# Altium footprint library IND_VISHAY.PcbLib: 2 footprints
Each footprint in its own frame and in the unit in brackets; x right, y up, seen from the top. Pads: shape width x height; smd on the part's side, far side on the other; paste and mask are expansions set on the pad; w line width, h text height; cw(c..) or ccw(c..) is an arc to the next point about the centre after c.
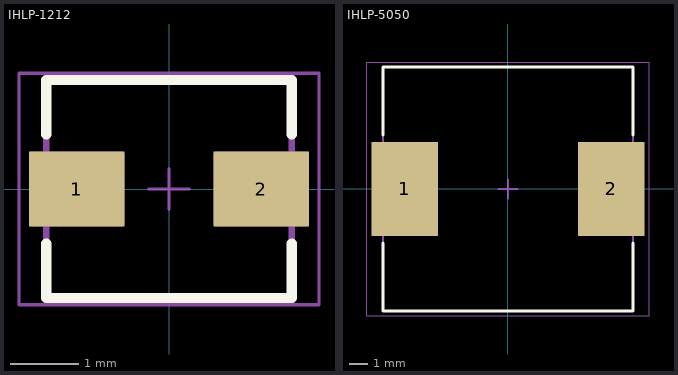
[diagram p0: the footprints below, top view; thin cyan lines are the x and y axes]

## IHLP-1212 [mm] "Low Profile High Current IHLP® Inductors"
pads (2):
  rect 1.4x1.1 smd: 1(-1.35,0) 2(1.35,0)
Top Overlay:
  lines w0.15: -1.8,-0.8 -1.8,-1.6 1.8,-1.6 1.8,-0.8 ; -1.8,0.8 -1.8,1.6 1.8,1.6 1.8,0.8
Mechanical 14:
  lines w0.1: -2,-0.5 -0.7,-0.5 -0.7,0.5 -2,0.5 -2,-0.5 ; -1.8,-1.6 -1.8,1.6 1.8,1.6 1.8,-1.6 -1.8,-1.6 ; 0.7,-0.5 0.7,0.5 2,0.5 2,-0.5 0.7,-0.5
  text ".Designator" at -0.5,-0.3 h0.5
Mechanical 15:
  lines w0.05: -0.3,0 0.3,0 ; 0,-0.3 0,0.3 ; -2.2,-1.7 -2.2,1.7 2.2,1.7 2.2,-1.7 -2.2,-1.7
3D body "IND_IHLP-1212BZ.stp": height 2.06, standoff 0, extent -1.803,-1.6 1.803,1.6

## IHLP-5050 [mm] "Precision Wire Wound Inductor, 2-Leads, Body 13,20x12,90mm, IPC Medium Density"
height 6.4
pads (2):
  rect 3.5x4.95 smd: 1(-5.45,0) 2(5.45,0)
Top Overlay:
  lines w0.15: -6.6,-2.85 -6.6,-6.45 6.6,-6.45 6.6,-2.85 ; -6.6,2.85 -6.6,6.45 6.6,6.45 6.6,2.85
Mechanical 13:
  lines w0.1: -6.6,-6.45 6.6,-6.45 6.6,6.45 -6.6,6.45 -6.6,-6.45
Mechanical 15:
  lines w0.05: -7.475,-6.7 7.475,-6.7 7.475,6.7 -7.475,6.7 -7.475,-6.7
  lines w0.1: -0.5,0 0.5,0 ; 0,-0.5 0,0.5
3D body "IHLP5050FDER4R7M01.stp": height 6.29, standoff 0, extent -6.683,-6.4 6.683,6.356